# Altium integrated library ECE295-Resistors-TH.IntLib: 73 symbols
Pins are listed as number, name and electrical type; pins without a type are passive.

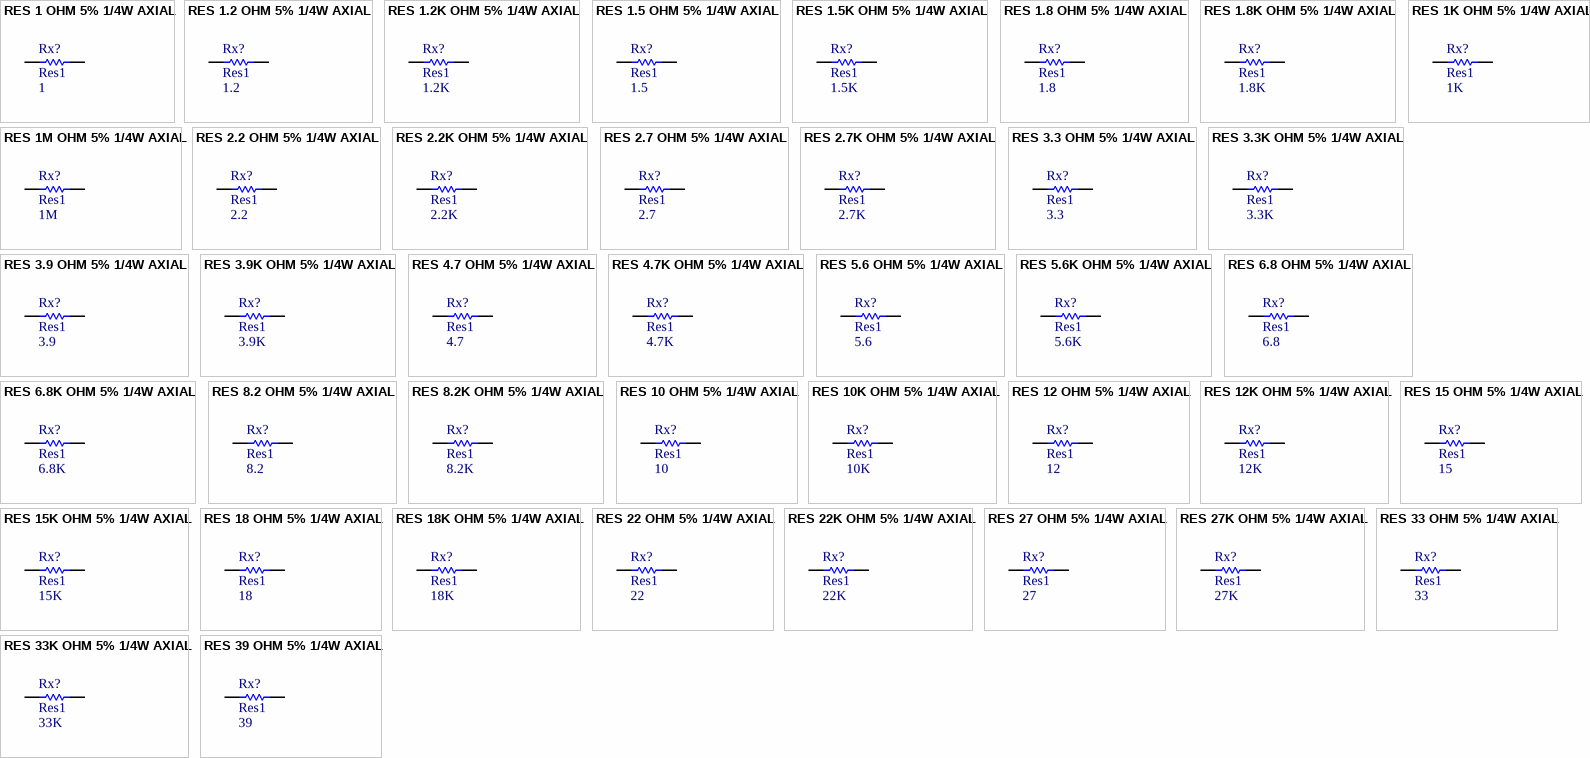
[diagram p0: symbols RES 1 OHM 5% 1/4W AXIAL to RES 39 OHM 5% 1/4W AXIAL]

## RES 1 OHM 5% 1/4W AXIAL
designator Rx?, comment Res1  value 1
Resistor; Manufacturer Part Number: CFR-25JB-52-1R; Designator: R?; Power Rating: 1/4W; Tolerance: 0.05; Published: 8-Jun-2000; LatestRevisionDate: 17-Jul-2002; LatestRevisionNote: Re-released for DXP Platform.; Publisher: Altium Limited
simulation model RESISTOR (Resistor)
signal-integrity model Res
footprint AXIAL-0.1-RES
footprint AXIAL-0.3
pins: 1, 2

## RES 1.2 OHM 5% 1/4W AXIAL
designator Rx?, comment Res1  value 1.2
Resistor; Manufacturer Part Number: CFR-25JB-52-1R2; Designator: R?; Power Rating: 1/4W; Tolerance: 0.05; Published: 8-Jun-2000; LatestRevisionDate: 17-Jul-2002; LatestRevisionNote: Re-released for DXP Platform.; Publisher: Altium Limited
simulation model RESISTOR (Resistor)
signal-integrity model Res
footprint AXIAL-0.1-RES
footprint AXIAL-0.3
pins: 1, 2

## RES 1.2K OHM 5% 1/4W AXIAL
designator Rx?, comment Res1  value 1.2K
Resistor; Manufacturer Part Number: CFR-25JB-52-1K2; Designator: R?; Power Rating: 1/4W; Tolerance: 0.05; Published: 8-Jun-2000; LatestRevisionDate: 17-Jul-2002; LatestRevisionNote: Re-released for DXP Platform.; Publisher: Altium Limited
simulation model RESISTOR (Resistor)
signal-integrity model Res
footprint AXIAL-0.1-RES
footprint AXIAL-0.3
pins: 1, 2

## RES 1.5 OHM 5% 1/4W AXIAL
designator Rx?, comment Res1  value 1.5
Resistor; Manufacturer Part Number: CFR-25JB-52-1R5; Designator: R?; Power Rating: 1/4W; Tolerance: 0.05; Published: 8-Jun-2000; LatestRevisionDate: 17-Jul-2002; LatestRevisionNote: Re-released for DXP Platform.; Publisher: Altium Limited
simulation model RESISTOR (Resistor)
signal-integrity model Res
footprint AXIAL-0.1-RES
footprint AXIAL-0.3
pins: 1, 2

## RES 1.5K OHM 5% 1/4W AXIAL
designator Rx?, comment Res1  value 1.5K
Resistor; Manufacturer Part Number: CFR-25JB-52-1K5; Designator: R?; Power Rating: 1/4W; Tolerance: 0.05; Published: 8-Jun-2000; LatestRevisionDate: 17-Jul-2002; LatestRevisionNote: Re-released for DXP Platform.; Publisher: Altium Limited
simulation model RESISTOR (Resistor)
signal-integrity model Res
footprint AXIAL-0.1-RES
footprint AXIAL-0.3
pins: 1, 2

## RES 1.8 OHM 5% 1/4W AXIAL
designator Rx?, comment Res1  value 1.8
Resistor; Manufacturer Part Number: CFR-25JB-52-1R8; Designator: R?; Power Rating: 1/4W; Tolerance: 0.05; Published: 8-Jun-2000; LatestRevisionDate: 17-Jul-2002; LatestRevisionNote: Re-released for DXP Platform.; Publisher: Altium Limited
simulation model RESISTOR (Resistor)
signal-integrity model Res
footprint AXIAL-0.1-RES
footprint AXIAL-0.3
pins: 1, 2

## RES 1.8K OHM 5% 1/4W AXIAL
designator Rx?, comment Res1  value 1.8K
Resistor; Manufacturer Part Number: CFR-25JB-52-1K8; Designator: R?; Power Rating: 1/4W; Tolerance: 0.05; Published: 8-Jun-2000; LatestRevisionDate: 17-Jul-2002; LatestRevisionNote: Re-released for DXP Platform.; Publisher: Altium Limited
simulation model RESISTOR (Resistor)
signal-integrity model Res
footprint AXIAL-0.1-RES
footprint AXIAL-0.3
pins: 1, 2

## RES 1K OHM 5% 1/4W AXIAL
designator Rx?, comment Res1  value 1K
Resistor; Manufacturer Part Number: CFR-25JB-52-1K; Designator: R?; Power Rating: 1/4W; Tolerance: 0.05; Published: 8-Jun-2000; LatestRevisionDate: 17-Jul-2002; LatestRevisionNote: Re-released for DXP Platform.; Publisher: Altium Limited
simulation model RESISTOR (Resistor)
signal-integrity model Res
footprint AXIAL-0.1-RES
footprint AXIAL-0.3
pins: 1, 2

## RES 1M OHM 5% 1/4W AXIAL
designator Rx?, comment Res1  value 1M
Resistor; Manufacturer Part Number: CFR-25JB-52-1M; Designator: R?; Power Rating: 1/4W; Tolerance: 0.05; Published: 8-Jun-2000; LatestRevisionDate: 17-Jul-2002; LatestRevisionNote: Re-released for DXP Platform.; Publisher: Altium Limited
simulation model RESISTOR (Resistor)
signal-integrity model Res
footprint AXIAL-0.1-RES
footprint AXIAL-0.3
pins: 1, 2

## RES 2.2 OHM 5% 1/4W AXIAL
designator Rx?, comment Res1  value 2.2
Resistor; Manufacturer Part Number: CFR-25JB-52-2R2; Designator: R?; Power Rating: 1/4W; Tolerance: 0.05; Published: 8-Jun-2000; LatestRevisionDate: 17-Jul-2002; LatestRevisionNote: Re-released for DXP Platform.; Publisher: Altium Limited
simulation model RESISTOR (Resistor)
signal-integrity model Res
footprint AXIAL-0.1-RES
footprint AXIAL-0.3
pins: 1, 2

## RES 2.2K OHM 5% 1/4W AXIAL
designator Rx?, comment Res1  value 2.2K
Resistor; Manufacturer Part Number: CFR-25JB-52-2K2; Designator: R?; Power Rating: 1/4W; Tolerance: 0.05; Published: 8-Jun-2000; LatestRevisionDate: 17-Jul-2002; LatestRevisionNote: Re-released for DXP Platform.; Publisher: Altium Limited
simulation model RESISTOR (Resistor)
signal-integrity model Res
footprint AXIAL-0.1-RES
footprint AXIAL-0.3
pins: 1, 2

## RES 2.7 OHM 5% 1/4W AXIAL
designator Rx?, comment Res1  value 2.7
Resistor; Manufacturer Part Number: CFR-25JB-52-2R7; Designator: R?; Power Rating: 1/4W; Tolerance: 0.05; Published: 8-Jun-2000; LatestRevisionDate: 17-Jul-2002; LatestRevisionNote: Re-released for DXP Platform.; Publisher: Altium Limited
simulation model RESISTOR (Resistor)
signal-integrity model Res
footprint AXIAL-0.1-RES
footprint AXIAL-0.3
pins: 1, 2

## RES 2.7K OHM 5% 1/4W AXIAL
designator Rx?, comment Res1  value 2.7K
Resistor; Manufacturer Part Number: CFR-25JB-52-2K7; Designator: R?; Power Rating: 1/4W; Tolerance: 0.05; Published: 8-Jun-2000; LatestRevisionDate: 17-Jul-2002; LatestRevisionNote: Re-released for DXP Platform.; Publisher: Altium Limited
simulation model RESISTOR (Resistor)
signal-integrity model Res
footprint AXIAL-0.1-RES
footprint AXIAL-0.3
pins: 1, 2

## RES 3.3 OHM 5% 1/4W AXIAL
designator Rx?, comment Res1  value 3.3
Resistor; Manufacturer Part Number: CFR-25JB-52-3R3; Designator: R?; Power Rating: 1/4W; Tolerance: 0.05; Published: 8-Jun-2000; LatestRevisionDate: 17-Jul-2002; LatestRevisionNote: Re-released for DXP Platform.; Publisher: Altium Limited
simulation model RESISTOR (Resistor)
signal-integrity model Res
footprint AXIAL-0.1-RES
footprint AXIAL-0.3
pins: 1, 2

## RES 3.3K OHM 5% 1/4W AXIAL
designator Rx?, comment Res1  value 3.3K
Resistor; Manufacturer Part Number: CFR-25JB-52-3K3; Designator: R?; Power Rating: 1/4W; Tolerance: 0.05; Published: 8-Jun-2000; LatestRevisionDate: 17-Jul-2002; LatestRevisionNote: Re-released for DXP Platform.; Publisher: Altium Limited
simulation model RESISTOR (Resistor)
signal-integrity model Res
footprint AXIAL-0.1-RES
footprint AXIAL-0.3
pins: 1, 2

## RES 3.9 OHM 5% 1/4W AXIAL
designator Rx?, comment Res1  value 3.9
Resistor; Manufacturer Part Number: CFR-25JB-52-3R9; Designator: R?; Power Rating: 1/4W; Tolerance: 0.05; Published: 8-Jun-2000; LatestRevisionDate: 17-Jul-2002; LatestRevisionNote: Re-released for DXP Platform.; Publisher: Altium Limited
simulation model RESISTOR (Resistor)
signal-integrity model Res
footprint AXIAL-0.1-RES
footprint AXIAL-0.3
pins: 1, 2

## RES 3.9K OHM 5% 1/4W AXIAL
designator Rx?, comment Res1  value 3.9K
Resistor; Manufacturer Part Number: CFR-25JB-52-3K9; Designator: R?; Power Rating: 1/4W; Tolerance: 0.05; Published: 8-Jun-2000; LatestRevisionDate: 17-Jul-2002; LatestRevisionNote: Re-released for DXP Platform.; Publisher: Altium Limited
simulation model RESISTOR (Resistor)
signal-integrity model Res
footprint AXIAL-0.1-RES
footprint AXIAL-0.3
pins: 1, 2

## RES 4.7 OHM 5% 1/4W AXIAL
designator Rx?, comment Res1  value 4.7
Resistor; Manufacturer Part Number: CFR-25JB-52-4R7; Designator: R?; Power Rating: 1/4W; Tolerance: 0.05; Published: 8-Jun-2000; LatestRevisionDate: 17-Jul-2002; LatestRevisionNote: Re-released for DXP Platform.; Publisher: Altium Limited
simulation model RESISTOR (Resistor)
signal-integrity model Res
footprint AXIAL-0.1-RES
footprint AXIAL-0.3
pins: 1, 2

## RES 4.7K OHM 5% 1/4W AXIAL
designator Rx?, comment Res1  value 4.7K
Resistor; Manufacturer Part Number: CFR-25JB-52-4K7; Designator: R?; Power Rating: 1/4W; Tolerance: 0.05; Published: 8-Jun-2000; LatestRevisionDate: 17-Jul-2002; LatestRevisionNote: Re-released for DXP Platform.; Publisher: Altium Limited
simulation model RESISTOR (Resistor)
signal-integrity model Res
footprint AXIAL-0.1-RES
footprint AXIAL-0.3
pins: 1, 2

## RES 5.6 OHM 5% 1/4W AXIAL
designator Rx?, comment Res1  value 5.6
Resistor; Manufacturer Part Number: CFR-25JB-52-5R6; Designator: R?; Power Rating: 1/4W; Tolerance: 0.05; Published: 8-Jun-2000; LatestRevisionDate: 17-Jul-2002; LatestRevisionNote: Re-released for DXP Platform.; Publisher: Altium Limited
simulation model RESISTOR (Resistor)
signal-integrity model Res
footprint AXIAL-0.1-RES
footprint AXIAL-0.3
pins: 1, 2

## RES 5.6K OHM 5% 1/4W AXIAL
designator Rx?, comment Res1  value 5.6K
Resistor; Manufacturer Part Number: CFR-25JB-52-5K6; Designator: R?; Power Rating: 1/4W; Tolerance: 0.05; Published: 8-Jun-2000; LatestRevisionDate: 17-Jul-2002; LatestRevisionNote: Re-released for DXP Platform.; Publisher: Altium Limited
simulation model RESISTOR (Resistor)
signal-integrity model Res
footprint AXIAL-0.1-RES
footprint AXIAL-0.3
pins: 1, 2

## RES 6.8 OHM 5% 1/4W AXIAL
designator Rx?, comment Res1  value 6.8
Resistor; Manufacturer Part Number: CFR-25JB-52-6R8; Designator: R?; Power Rating: 1/4W; Tolerance: 0.05; Published: 8-Jun-2000; LatestRevisionDate: 17-Jul-2002; LatestRevisionNote: Re-released for DXP Platform.; Publisher: Altium Limited
simulation model RESISTOR (Resistor)
signal-integrity model Res
footprint AXIAL-0.1-RES
footprint AXIAL-0.3
pins: 1, 2

## RES 6.8K OHM 5% 1/4W AXIAL
designator Rx?, comment Res1  value 6.8K
Resistor; Manufacturer Part Number: CFR-25JB-52-6K8; Designator: R?; Power Rating: 1/4W; Tolerance: 0.05; Published: 8-Jun-2000; LatestRevisionDate: 17-Jul-2002; LatestRevisionNote: Re-released for DXP Platform.; Publisher: Altium Limited
simulation model RESISTOR (Resistor)
signal-integrity model Res
footprint AXIAL-0.1-RES
footprint AXIAL-0.3
pins: 1, 2

## RES 8.2 OHM 5% 1/4W AXIAL
designator Rx?, comment Res1  value 8.2
Resistor; Manufacturer Part Number: CFR-25JB-52-8R2; Designator: R?; Power Rating: 1/4W; Tolerance: 0.05; Published: 8-Jun-2000; LatestRevisionDate: 17-Jul-2002; LatestRevisionNote: Re-released for DXP Platform.; Publisher: Altium Limited
simulation model RESISTOR (Resistor)
signal-integrity model Res
footprint AXIAL-0.1-RES
footprint AXIAL-0.3
pins: 1, 2

## RES 8.2K OHM 5% 1/4W AXIAL
designator Rx?, comment Res1  value 8.2K
Resistor; Manufacturer Part Number: CFR-25JB-52-8K2; Designator: R?; Power Rating: 1/4W; Tolerance: 0.05; Published: 8-Jun-2000; LatestRevisionDate: 17-Jul-2002; LatestRevisionNote: Re-released for DXP Platform.; Publisher: Altium Limited
simulation model RESISTOR (Resistor)
signal-integrity model Res
footprint AXIAL-0.1-RES
footprint AXIAL-0.3
pins: 1, 2

## RES 10 OHM 5% 1/4W AXIAL
designator Rx?, comment Res1  value 10
Resistor; Manufacturer Part Number: CFR-25JB-52-10R; Designator: R?; Power Rating: 1/4W; Tolerance: 0.05; Published: 8-Jun-2000; LatestRevisionDate: 17-Jul-2002; LatestRevisionNote: Re-released for DXP Platform.; Publisher: Altium Limited
simulation model RESISTOR (Resistor)
signal-integrity model Res
footprint AXIAL-0.1-RES
footprint AXIAL-0.3
pins: 1, 2

## RES 10K OHM 5% 1/4W AXIAL
designator Rx?, comment Res1  value 10K
Resistor; Manufacturer Part Number: CFR-25JB-52-10K; Designator: R?; Power Rating: 1/4W; Tolerance: 0.05; Published: 8-Jun-2000; LatestRevisionDate: 17-Jul-2002; LatestRevisionNote: Re-released for DXP Platform.; Publisher: Altium Limited
simulation model RESISTOR (Resistor)
signal-integrity model Res
footprint AXIAL-0.1-RES
footprint AXIAL-0.3
pins: 1, 2

## RES 12 OHM 5% 1/4W AXIAL
designator Rx?, comment Res1  value 12
Resistor; Manufacturer Part Number: CFR-25JB-52-12R; Designator: R?; Power Rating: 1/4W; Tolerance: 0.05; Published: 8-Jun-2000; LatestRevisionDate: 17-Jul-2002; LatestRevisionNote: Re-released for DXP Platform.; Publisher: Altium Limited
simulation model RESISTOR (Resistor)
signal-integrity model Res
footprint AXIAL-0.1-RES
footprint AXIAL-0.3
pins: 1, 2

## RES 12K OHM 5% 1/4W AXIAL
designator Rx?, comment Res1  value 12K
Resistor; Manufacturer Part Number: CFR-25JB-52-12K; Designator: R?; Power Rating: 1/4W; Tolerance: 0.05; Published: 8-Jun-2000; LatestRevisionDate: 17-Jul-2002; LatestRevisionNote: Re-released for DXP Platform.; Publisher: Altium Limited
simulation model RESISTOR (Resistor)
signal-integrity model Res
footprint AXIAL-0.1-RES
footprint AXIAL-0.3
pins: 1, 2

## RES 15 OHM 5% 1/4W AXIAL
designator Rx?, comment Res1  value 15
Resistor; Manufacturer Part Number: CFR-25JB-52-15R; Designator: R?; Power Rating: 1/4W; Tolerance: 0.05; Published: 8-Jun-2000; LatestRevisionDate: 17-Jul-2002; LatestRevisionNote: Re-released for DXP Platform.; Publisher: Altium Limited
simulation model RESISTOR (Resistor)
signal-integrity model Res
footprint AXIAL-0.1-RES
footprint AXIAL-0.3
pins: 1, 2

## RES 15K OHM 5% 1/4W AXIAL
designator Rx?, comment Res1  value 15K
Resistor; Manufacturer Part Number: CFR-25JB-52-15K; Designator: R?; Power Rating: 1/4W; Tolerance: 0.05; Published: 8-Jun-2000; LatestRevisionDate: 17-Jul-2002; LatestRevisionNote: Re-released for DXP Platform.; Publisher: Altium Limited
simulation model RESISTOR (Resistor)
signal-integrity model Res
footprint AXIAL-0.1-RES
footprint AXIAL-0.3
pins: 1, 2

## RES 18 OHM 5% 1/4W AXIAL
designator Rx?, comment Res1  value 18
Resistor; Manufacturer Part Number: CFR-25JB-52-18R; Designator: R?; Power Rating: 1/4W; Tolerance: 0.05; Published: 8-Jun-2000; LatestRevisionDate: 17-Jul-2002; LatestRevisionNote: Re-released for DXP Platform.; Publisher: Altium Limited
simulation model RESISTOR (Resistor)
signal-integrity model Res
footprint AXIAL-0.1-RES
footprint AXIAL-0.3
pins: 1, 2

## RES 18K OHM 5% 1/4W AXIAL
designator Rx?, comment Res1  value 18K
Resistor; Manufacturer Part Number: CFR-25JB-52-18K; Designator: R?; Power Rating: 1/4W; Tolerance: 0.05; Published: 8-Jun-2000; LatestRevisionDate: 17-Jul-2002; LatestRevisionNote: Re-released for DXP Platform.; Publisher: Altium Limited
simulation model RESISTOR (Resistor)
signal-integrity model Res
footprint AXIAL-0.1-RES
footprint AXIAL-0.3
pins: 1, 2

## RES 22 OHM 5% 1/4W AXIAL
designator Rx?, comment Res1  value 22
Resistor; Manufacturer Part Number: CFR-25JB-52-22R; Designator: R?; Power Rating: 1/4W; Tolerance: 0.05; Published: 8-Jun-2000; LatestRevisionDate: 17-Jul-2002; LatestRevisionNote: Re-released for DXP Platform.; Publisher: Altium Limited
simulation model RESISTOR (Resistor)
signal-integrity model Res
footprint AXIAL-0.1-RES
footprint AXIAL-0.3
pins: 1, 2

## RES 22K OHM 5% 1/4W AXIAL
designator Rx?, comment Res1  value 22K
Resistor; Manufacturer Part Number: CFR-25JB-52-22K; Designator: R?; Power Rating: 1/4W; Tolerance: 0.05; Published: 8-Jun-2000; LatestRevisionDate: 17-Jul-2002; LatestRevisionNote: Re-released for DXP Platform.; Publisher: Altium Limited
simulation model RESISTOR (Resistor)
signal-integrity model Res
footprint AXIAL-0.1-RES
footprint AXIAL-0.3
pins: 1, 2

## RES 27 OHM 5% 1/4W AXIAL
designator Rx?, comment Res1  value 27
Resistor; Manufacturer Part Number: CFR-25JB-52-27R; Designator: R?; Power Rating: 1/4W; Tolerance: 0.05; Published: 8-Jun-2000; LatestRevisionDate: 17-Jul-2002; LatestRevisionNote: Re-released for DXP Platform.; Publisher: Altium Limited
simulation model RESISTOR (Resistor)
signal-integrity model Res
footprint AXIAL-0.1-RES
footprint AXIAL-0.3
pins: 1, 2

## RES 27K OHM 5% 1/4W AXIAL
designator Rx?, comment Res1  value 27K
Resistor; Manufacturer Part Number: CFR-25JB-52-27K; Designator: R?; Power Rating: 1/4W; Tolerance: 0.05; Published: 8-Jun-2000; LatestRevisionDate: 17-Jul-2002; LatestRevisionNote: Re-released for DXP Platform.; Publisher: Altium Limited
simulation model RESISTOR (Resistor)
signal-integrity model Res
footprint AXIAL-0.1-RES
footprint AXIAL-0.3
pins: 1, 2

## RES 33 OHM 5% 1/4W AXIAL
designator Rx?, comment Res1  value 33
Resistor; Manufacturer Part Number: CFR-25JB-52-33R; Designator: R?; Power Rating: 1/4W; Tolerance: 0.05; Published: 8-Jun-2000; LatestRevisionDate: 17-Jul-2002; LatestRevisionNote: Re-released for DXP Platform.; Publisher: Altium Limited
simulation model RESISTOR (Resistor)
signal-integrity model Res
footprint AXIAL-0.1-RES
footprint AXIAL-0.3
pins: 1, 2

## RES 33K OHM 5% 1/4W AXIAL
designator Rx?, comment Res1  value 33K
Resistor; Manufacturer Part Number: CFR-25JB-52-33K; Designator: R?; Power Rating: 1/4W; Tolerance: 0.05; Published: 8-Jun-2000; LatestRevisionDate: 17-Jul-2002; LatestRevisionNote: Re-released for DXP Platform.; Publisher: Altium Limited
simulation model RESISTOR (Resistor)
signal-integrity model Res
footprint AXIAL-0.1-RES
footprint AXIAL-0.3
pins: 1, 2

## RES 39 OHM 5% 1/4W AXIAL
designator Rx?, comment Res1  value 39
Resistor; Manufacturer Part Number: CFR-25JB-52-39R; Designator: R?; Power Rating: 1/4W; Tolerance: 0.05; Published: 8-Jun-2000; LatestRevisionDate: 17-Jul-2002; LatestRevisionNote: Re-released for DXP Platform.; Publisher: Altium Limited
simulation model RESISTOR (Resistor)
signal-integrity model Res
footprint AXIAL-0.1-RES
footprint AXIAL-0.3
pins: 1, 2

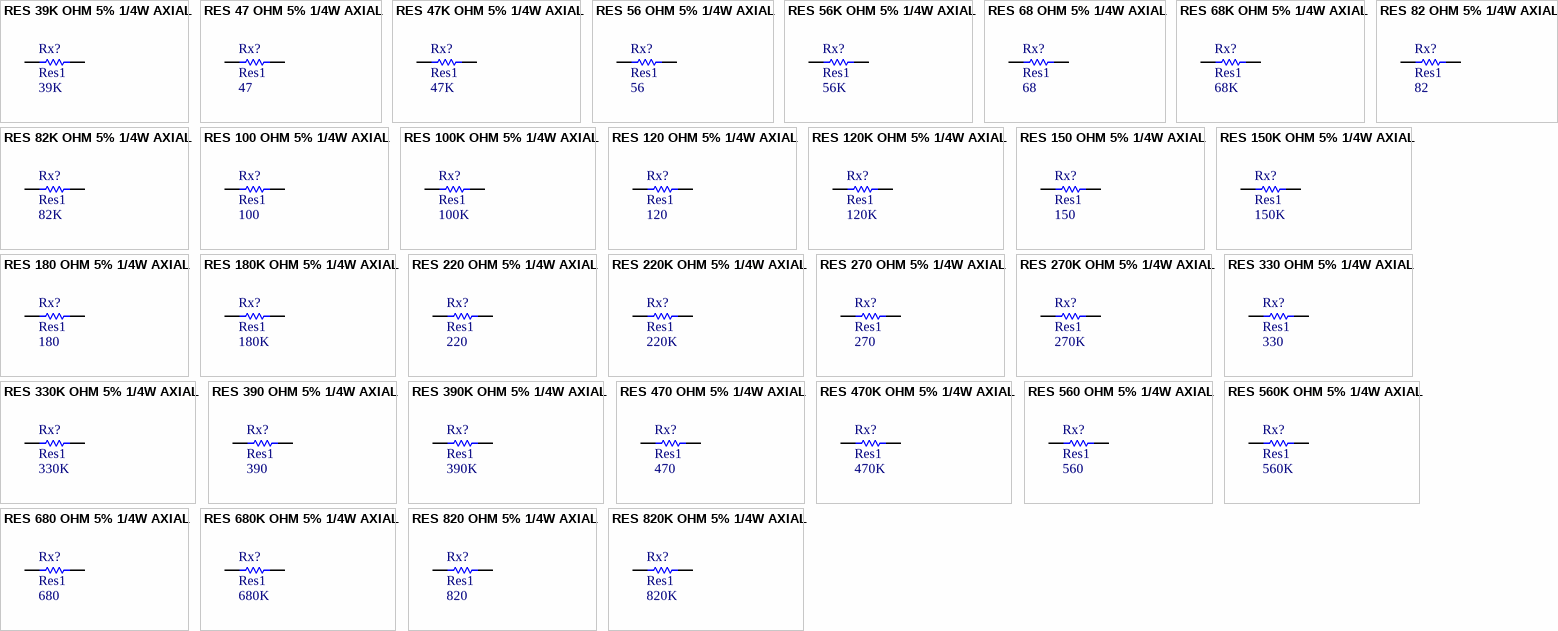
[diagram p1: symbols RES 39K OHM 5% 1/4W AXIAL to RES 820K OHM 5% 1/4W AXIAL]

## RES 39K OHM 5% 1/4W AXIAL
designator Rx?, comment Res1  value 39K
Resistor; Manufacturer Part Number: CFR-25JB-52-39K; Designator: R?; Power Rating: 1/4W; Tolerance: 0.05; Published: 8-Jun-2000; LatestRevisionDate: 17-Jul-2002; LatestRevisionNote: Re-released for DXP Platform.; Publisher: Altium Limited
simulation model RESISTOR (Resistor)
signal-integrity model Res
footprint AXIAL-0.1-RES
footprint AXIAL-0.3
pins: 1, 2

## RES 47 OHM 5% 1/4W AXIAL
designator Rx?, comment Res1  value 47
Resistor; Manufacturer Part Number: CFR-25JB-52-47R; Designator: R?; Power Rating: 1/4W; Tolerance: 0.05; Published: 8-Jun-2000; LatestRevisionDate: 17-Jul-2002; LatestRevisionNote: Re-released for DXP Platform.; Publisher: Altium Limited
simulation model RESISTOR (Resistor)
signal-integrity model Res
footprint AXIAL-0.1-RES
footprint AXIAL-0.3
pins: 1, 2

## RES 47K OHM 5% 1/4W AXIAL
designator Rx?, comment Res1  value 47K
Resistor; Manufacturer Part Number: CFR-25JB-52-47K; Designator: R?; Power Rating: 1/4W; Tolerance: 0.05; Published: 8-Jun-2000; LatestRevisionDate: 17-Jul-2002; LatestRevisionNote: Re-released for DXP Platform.; Publisher: Altium Limited
simulation model RESISTOR (Resistor)
signal-integrity model Res
footprint AXIAL-0.1-RES
footprint AXIAL-0.3
pins: 1, 2

## RES 56 OHM 5% 1/4W AXIAL
designator Rx?, comment Res1  value 56
Resistor; Manufacturer Part Number: CFR-25JB-52-56R; Designator: R?; Power Rating: 1/4W; Tolerance: 0.05; Published: 8-Jun-2000; LatestRevisionDate: 17-Jul-2002; LatestRevisionNote: Re-released for DXP Platform.; Publisher: Altium Limited
simulation model RESISTOR (Resistor)
signal-integrity model Res
footprint AXIAL-0.1-RES
footprint AXIAL-0.3
pins: 1, 2

## RES 56K OHM 5% 1/4W AXIAL
designator Rx?, comment Res1  value 56K
Resistor; Manufacturer Part Number: CFR-25JB-52-56K; Designator: R?; Power Rating: 1/4W; Tolerance: 0.05; Published: 8-Jun-2000; LatestRevisionDate: 17-Jul-2002; LatestRevisionNote: Re-released for DXP Platform.; Publisher: Altium Limited
simulation model RESISTOR (Resistor)
signal-integrity model Res
footprint AXIAL-0.1-RES
footprint AXIAL-0.3
pins: 1, 2

## RES 68 OHM 5% 1/4W AXIAL
designator Rx?, comment Res1  value 68
Resistor; Manufacturer Part Number: CFR-25JB-52-68R; Designator: R?; Power Rating: 1/4W; Tolerance: 0.05; Published: 8-Jun-2000; LatestRevisionDate: 17-Jul-2002; LatestRevisionNote: Re-released for DXP Platform.; Publisher: Altium Limited
simulation model RESISTOR (Resistor)
signal-integrity model Res
footprint AXIAL-0.1-RES
footprint AXIAL-0.3
pins: 1, 2

## RES 68K OHM 5% 1/4W AXIAL
designator Rx?, comment Res1  value 68K
Resistor; Manufacturer Part Number: CFR-25JB-52-68K; Designator: R?; Power Rating: 1/4W; Tolerance: 0.05; Published: 8-Jun-2000; LatestRevisionDate: 17-Jul-2002; LatestRevisionNote: Re-released for DXP Platform.; Publisher: Altium Limited
simulation model RESISTOR (Resistor)
signal-integrity model Res
footprint AXIAL-0.1-RES
footprint AXIAL-0.3
pins: 1, 2

## RES 82 OHM 5% 1/4W AXIAL
designator Rx?, comment Res1  value 82
Resistor; Manufacturer Part Number: CFR-25JB-52-82R; Designator: R?; Power Rating: 1/4W; Tolerance: 0.05; Published: 8-Jun-2000; LatestRevisionDate: 17-Jul-2002; LatestRevisionNote: Re-released for DXP Platform.; Publisher: Altium Limited
simulation model RESISTOR (Resistor)
signal-integrity model Res
footprint AXIAL-0.1-RES
footprint AXIAL-0.3
pins: 1, 2

## RES 82K OHM 5% 1/4W AXIAL
designator Rx?, comment Res1  value 82K
Resistor; Manufacturer Part Number: CFR-25JB-52-82K; Designator: R?; Power Rating: 1/4W; Tolerance: 0.05; Published: 8-Jun-2000; LatestRevisionDate: 17-Jul-2002; LatestRevisionNote: Re-released for DXP Platform.; Publisher: Altium Limited
simulation model RESISTOR (Resistor)
signal-integrity model Res
footprint AXIAL-0.1-RES
footprint AXIAL-0.3
pins: 1, 2

## RES 100 OHM 5% 1/4W AXIAL
designator Rx?, comment Res1  value 100
Resistor; Manufacturer Part Number: CFR-25JB-52-100R; Designator: R?; Power Rating: 1/4W; Tolerance: 0.05; Published: 8-Jun-2000; LatestRevisionDate: 17-Jul-2002; LatestRevisionNote: Re-released for DXP Platform.; Publisher: Altium Limited
simulation model RESISTOR (Resistor)
signal-integrity model Res
footprint AXIAL-0.1-RES
footprint AXIAL-0.3
pins: 1, 2

## RES 100K OHM 5% 1/4W AXIAL
designator Rx?, comment Res1  value 100K
Resistor; Manufacturer Part Number: CFR-25JB-52-100K; Designator: R?; Power Rating: 1/4W; Tolerance: 0.05; Published: 8-Jun-2000; LatestRevisionDate: 17-Jul-2002; LatestRevisionNote: Re-released for DXP Platform.; Publisher: Altium Limited
simulation model RESISTOR (Resistor)
signal-integrity model Res
footprint AXIAL-0.1-RES
footprint AXIAL-0.3
pins: 1, 2

## RES 120 OHM 5% 1/4W AXIAL
designator Rx?, comment Res1  value 120
Resistor; Manufacturer Part Number: CFR-25JB-52-120R; Designator: R?; Power Rating: 1/4W; Tolerance: 0.05; Published: 8-Jun-2000; LatestRevisionDate: 17-Jul-2002; LatestRevisionNote: Re-released for DXP Platform.; Publisher: Altium Limited
simulation model RESISTOR (Resistor)
signal-integrity model Res
footprint AXIAL-0.1-RES
footprint AXIAL-0.3
pins: 1, 2

## RES 120K OHM 5% 1/4W AXIAL
designator Rx?, comment Res1  value 120K
Resistor; Manufacturer Part Number: CFR-25JB-52-120K; Designator: R?; Power Rating: 1/4W; Tolerance: 0.05; Published: 8-Jun-2000; LatestRevisionDate: 17-Jul-2002; LatestRevisionNote: Re-released for DXP Platform.; Publisher: Altium Limited
simulation model RESISTOR (Resistor)
signal-integrity model Res
footprint AXIAL-0.1-RES
footprint AXIAL-0.3
pins: 1, 2

## RES 150 OHM 5% 1/4W AXIAL
designator Rx?, comment Res1  value 150
Resistor; Manufacturer Part Number: CFR-25JB-52-150R; Designator: R?; Power Rating: 1/4W; Tolerance: 0.05; Published: 8-Jun-2000; LatestRevisionDate: 17-Jul-2002; LatestRevisionNote: Re-released for DXP Platform.; Publisher: Altium Limited
simulation model RESISTOR (Resistor)
signal-integrity model Res
footprint AXIAL-0.1-RES
footprint AXIAL-0.3
pins: 1, 2

## RES 150K OHM 5% 1/4W AXIAL
designator Rx?, comment Res1  value 150K
Resistor; Manufacturer Part Number: CFR-25JB-52-150K; Designator: R?; Power Rating: 1/4W; Tolerance: 0.05; Published: 8-Jun-2000; LatestRevisionDate: 17-Jul-2002; LatestRevisionNote: Re-released for DXP Platform.; Publisher: Altium Limited
simulation model RESISTOR (Resistor)
signal-integrity model Res
footprint AXIAL-0.1-RES
footprint AXIAL-0.3
pins: 1, 2

## RES 180 OHM 5% 1/4W AXIAL
designator Rx?, comment Res1  value 180
Resistor; Manufacturer Part Number: CFR-25JB-52-180R; Designator: R?; Power Rating: 1/4W; Tolerance: 0.05; Published: 8-Jun-2000; LatestRevisionDate: 17-Jul-2002; LatestRevisionNote: Re-released for DXP Platform.; Publisher: Altium Limited
simulation model RESISTOR (Resistor)
signal-integrity model Res
footprint AXIAL-0.1-RES
footprint AXIAL-0.3
pins: 1, 2

## RES 180K OHM 5% 1/4W AXIAL
designator Rx?, comment Res1  value 180K
Resistor; Manufacturer Part Number: CFR-25JB-52-180K; Designator: R?; Power Rating: 1/4W; Tolerance: 0.05; Published: 8-Jun-2000; LatestRevisionDate: 17-Jul-2002; LatestRevisionNote: Re-released for DXP Platform.; Publisher: Altium Limited
simulation model RESISTOR (Resistor)
signal-integrity model Res
footprint AXIAL-0.1-RES
footprint AXIAL-0.3
pins: 1, 2

## RES 220 OHM 5% 1/4W AXIAL
designator Rx?, comment Res1  value 220
Resistor; Manufacturer Part Number: CFR-25JB-52-220R; Designator: R?; Power Rating: 1/4W; Tolerance: 0.05; Published: 8-Jun-2000; LatestRevisionDate: 17-Jul-2002; LatestRevisionNote: Re-released for DXP Platform.; Publisher: Altium Limited
simulation model RESISTOR (Resistor)
signal-integrity model Res
footprint AXIAL-0.1-RES
footprint AXIAL-0.3
pins: 1, 2

## RES 220K OHM 5% 1/4W AXIAL
designator Rx?, comment Res1  value 220K
Resistor; Manufacturer Part Number: CFR-25JB-52-220K; Designator: R?; Power Rating: 1/4W; Tolerance: 0.05; Published: 8-Jun-2000; LatestRevisionDate: 17-Jul-2002; LatestRevisionNote: Re-released for DXP Platform.; Publisher: Altium Limited
simulation model RESISTOR (Resistor)
signal-integrity model Res
footprint AXIAL-0.1-RES
footprint AXIAL-0.3
pins: 1, 2

## RES 270 OHM 5% 1/4W AXIAL
designator Rx?, comment Res1  value 270
Resistor; Manufacturer Part Number: CFR-25JB-52-270R; Designator: R?; Power Rating: 1/4W; Tolerance: 0.05; Published: 8-Jun-2000; LatestRevisionDate: 17-Jul-2002; LatestRevisionNote: Re-released for DXP Platform.; Publisher: Altium Limited
simulation model RESISTOR (Resistor)
signal-integrity model Res
footprint AXIAL-0.1-RES
footprint AXIAL-0.3
pins: 1, 2

## RES 270K OHM 5% 1/4W AXIAL
designator Rx?, comment Res1  value 270K
Resistor; Manufacturer Part Number: CFR-25JB-52-270K; Designator: R?; Power Rating: 1/4W; Tolerance: 0.05; Published: 8-Jun-2000; LatestRevisionDate: 17-Jul-2002; LatestRevisionNote: Re-released for DXP Platform.; Publisher: Altium Limited
simulation model RESISTOR (Resistor)
signal-integrity model Res
footprint AXIAL-0.1-RES
footprint AXIAL-0.3
pins: 1, 2

## RES 330 OHM 5% 1/4W AXIAL
designator Rx?, comment Res1  value 330
Resistor; Manufacturer Part Number: CFR-25JB-52-330R; Designator: R?; Power Rating: 1/4W; Tolerance: 0.05; Published: 8-Jun-2000; LatestRevisionDate: 17-Jul-2002; LatestRevisionNote: Re-released for DXP Platform.; Publisher: Altium Limited
simulation model RESISTOR (Resistor)
signal-integrity model Res
footprint AXIAL-0.1-RES
footprint AXIAL-0.3
pins: 1, 2

## RES 330K OHM 5% 1/4W AXIAL
designator Rx?, comment Res1  value 330K
Resistor; Manufacturer Part Number: CFR-25JB-52-330K; Designator: R?; Power Rating: 1/4W; Tolerance: 0.05; Published: 8-Jun-2000; LatestRevisionDate: 17-Jul-2002; LatestRevisionNote: Re-released for DXP Platform.; Publisher: Altium Limited
simulation model RESISTOR (Resistor)
signal-integrity model Res
footprint AXIAL-0.1-RES
footprint AXIAL-0.3
pins: 1, 2

## RES 390 OHM 5% 1/4W AXIAL
designator Rx?, comment Res1  value 390
Resistor; Manufacturer Part Number: CFR-25JB-52-390R; Designator: R?; Power Rating: 1/4W; Tolerance: 0.05; Published: 8-Jun-2000; LatestRevisionDate: 17-Jul-2002; LatestRevisionNote: Re-released for DXP Platform.; Publisher: Altium Limited
simulation model RESISTOR (Resistor)
signal-integrity model Res
footprint AXIAL-0.1-RES
footprint AXIAL-0.3
pins: 1, 2

## RES 390K OHM 5% 1/4W AXIAL
designator Rx?, comment Res1  value 390K
Resistor; Manufacturer Part Number: CFR-25JB-52-390K; Designator: R?; Power Rating: 1/4W; Tolerance: 0.05; Published: 8-Jun-2000; LatestRevisionDate: 17-Jul-2002; LatestRevisionNote: Re-released for DXP Platform.; Publisher: Altium Limited
simulation model RESISTOR (Resistor)
signal-integrity model Res
footprint AXIAL-0.1-RES
footprint AXIAL-0.3
pins: 1, 2

## RES 470 OHM 5% 1/4W AXIAL
designator Rx?, comment Res1  value 470
Resistor; Manufacturer Part Number: CFR-25JB-52-470R; Designator: R?; Power Rating: 1/4W; Tolerance: 0.05; Published: 8-Jun-2000; LatestRevisionDate: 17-Jul-2002; LatestRevisionNote: Re-released for DXP Platform.; Publisher: Altium Limited
simulation model RESISTOR (Resistor)
signal-integrity model Res
footprint AXIAL-0.1-RES
footprint AXIAL-0.3
pins: 1, 2

## RES 470K OHM 5% 1/4W AXIAL
designator Rx?, comment Res1  value 470K
Resistor; Manufacturer Part Number: CFR-25JB-52-470K; Designator: R?; Power Rating: 1/4W; Tolerance: 0.05; Published: 8-Jun-2000; LatestRevisionDate: 17-Jul-2002; LatestRevisionNote: Re-released for DXP Platform.; Publisher: Altium Limited
simulation model RESISTOR (Resistor)
signal-integrity model Res
footprint AXIAL-0.1-RES
footprint AXIAL-0.3
pins: 1, 2

## RES 560 OHM 5% 1/4W AXIAL
designator Rx?, comment Res1  value 560
Resistor; Manufacturer Part Number: CFR-25JB-52-560R; Designator: R?; Power Rating: 1/4W; Tolerance: 0.05; Published: 8-Jun-2000; LatestRevisionDate: 17-Jul-2002; LatestRevisionNote: Re-released for DXP Platform.; Publisher: Altium Limited
simulation model RESISTOR (Resistor)
signal-integrity model Res
footprint AXIAL-0.1-RES
footprint AXIAL-0.3
pins: 1, 2

## RES 560K OHM 5% 1/4W AXIAL
designator Rx?, comment Res1  value 560K
Resistor; Manufacturer Part Number: CFR-25JB-52-560K; Designator: R?; Power Rating: 1/4W; Tolerance: 0.05; Published: 8-Jun-2000; LatestRevisionDate: 17-Jul-2002; LatestRevisionNote: Re-released for DXP Platform.; Publisher: Altium Limited
simulation model RESISTOR (Resistor)
signal-integrity model Res
footprint AXIAL-0.1-RES
footprint AXIAL-0.3
pins: 1, 2

## RES 680 OHM 5% 1/4W AXIAL
designator Rx?, comment Res1  value 680
Resistor; Manufacturer Part Number: CFR-25JB-52-680R; Designator: R?; Power Rating: 1/4W; Tolerance: 0.05; Published: 8-Jun-2000; LatestRevisionDate: 17-Jul-2002; LatestRevisionNote: Re-released for DXP Platform.; Publisher: Altium Limited
simulation model RESISTOR (Resistor)
signal-integrity model Res
footprint AXIAL-0.1-RES
footprint AXIAL-0.3
pins: 1, 2

## RES 680K OHM 5% 1/4W AXIAL
designator Rx?, comment Res1  value 680K
Resistor; Manufacturer Part Number: CFR-25JB-52-680K; Designator: R?; Power Rating: 1/4W; Tolerance: 0.05; Published: 8-Jun-2000; LatestRevisionDate: 17-Jul-2002; LatestRevisionNote: Re-released for DXP Platform.; Publisher: Altium Limited
simulation model RESISTOR (Resistor)
signal-integrity model Res
footprint AXIAL-0.1-RES
footprint AXIAL-0.3
pins: 1, 2

## RES 820 OHM 5% 1/4W AXIAL
designator Rx?, comment Res1  value 820
Resistor; Manufacturer Part Number: CFR-25JB-52-820R; Designator: R?; Power Rating: 1/4W; Tolerance: 0.05; Published: 8-Jun-2000; LatestRevisionDate: 17-Jul-2002; LatestRevisionNote: Re-released for DXP Platform.; Publisher: Altium Limited
simulation model RESISTOR (Resistor)
signal-integrity model Res
footprint AXIAL-0.1-RES
footprint AXIAL-0.3
pins: 1, 2

## RES 820K OHM 5% 1/4W AXIAL
designator Rx?, comment Res1  value 820K
Resistor; Manufacturer Part Number: CFR-25JB-52-820K; Designator: R?; Power Rating: 1/4W; Tolerance: 0.05; Published: 8-Jun-2000; LatestRevisionDate: 17-Jul-2002; LatestRevisionNote: Re-released for DXP Platform.; Publisher: Altium Limited
simulation model RESISTOR (Resistor)
signal-integrity model Res
footprint AXIAL-0.1-RES
footprint AXIAL-0.3
pins: 1, 2